# EAGLE library part TEN25-1211 (library tracopower)
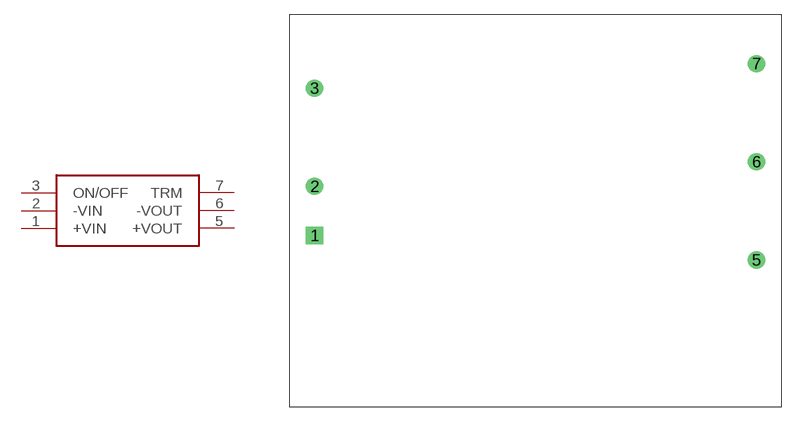
[diagram p0: symbol with the pads of TEN25; footprint TEN25]

Designator prefix -

## TEN25-1211TEN25-1211  [TEN25]
1  +VIN
2  -VIN
3  ON/OFF
5  +VOUT
6  -VOUT
7  TRM

## Footprint TEN25 (pad centres in mm)
drill 1.1 pad 1.778 square: 1 0,0
drill 1.1 pad 1.778: 2 0,5.08; 3 0,15.24; 5 45.72,-2.54; 6 45.72,7.62; 7 45.72,17.78